# Altium schematic symbol library WCAP-AI3H.SchLib: 37 symbols
Pins are listed as number, name and electrical type; pins without a type are passive.

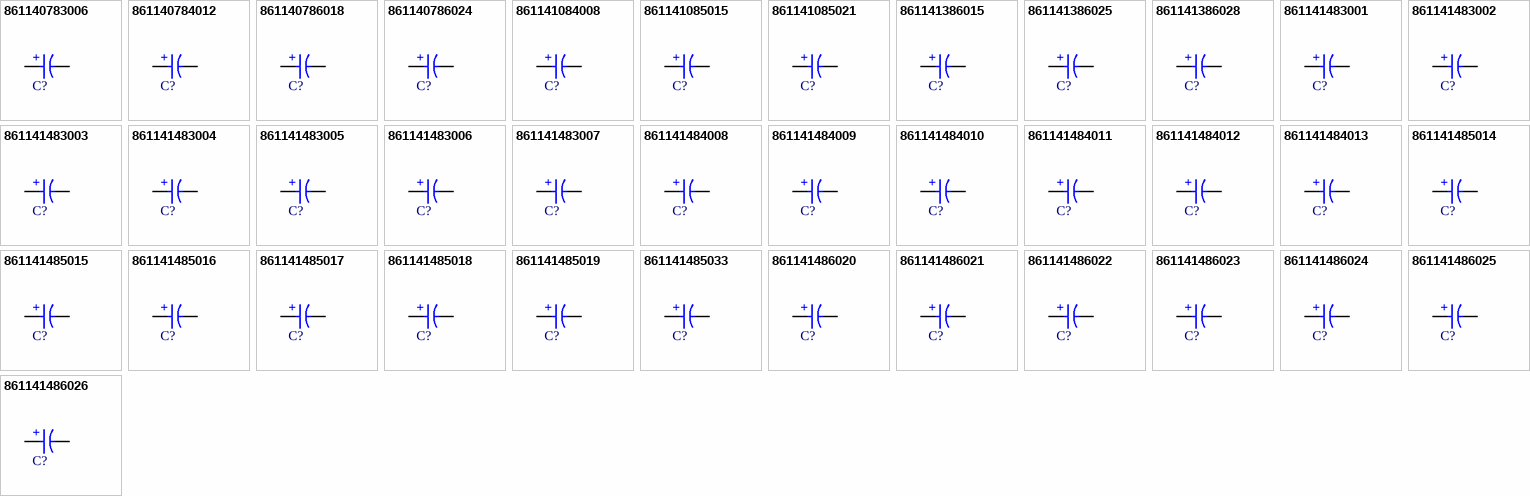
[diagram p0: symbols 861140783006 to 861141486026]

## 861140783006
designator C?, comment 2200µF  (value not drawn)
WCAP-AI3H Aluminum Electrolytic Capacitor, Snap-In, D22 x H35mm, 2200µF, 63V; Manufacturer Part Number: 861140783006; Manufacturer: Wurth Elektronik; Capacitance Tolerance: +/-20%; Dissipation Factor: 20%; Endurance: 3000h; Leakage Current: 1116.87µA; Ripple Current: 1820mA; Technical Reference: ANDN350222M063DSIC3C000; Category: Aluminum Electrolytic Capacitors; Match Code: WCAP-AI3H; ComponentLink1Description: Website Link; ComponentLink1URL: https://www.we-online.com/redexpert/article/861140783006?ad; ComponentLink2Description: Datasheet Link; ComponentLink2URL: https://www.we-online.com/redexpert/spec/861140783006?ad; Mount: Through Hole; Operating Temperature Max: 105°C; Operating Temperature Min: -40°C; Packaging: Tray; Height: 35mm; Diameter: 22mm; Capacitance: 2200µF; Rated Voltage (DC): 63V
footprint WCAP-AI3H_D22H35
simulation model 861140783006_2.2mF
pins: 1 P, 2 N
text: +

## 861140784012
designator C?, comment 3300µF  (value not drawn)
WCAP-AI3H Aluminum Electrolytic Capacitor, Snap-In, D25 x H35mm, 3300µF, 63V; Manufacturer Part Number: 861140784012; Manufacturer: Wurth Elektronik; Capacitance Tolerance: +/-20%; Dissipation Factor: 20%; Endurance: 3000h; Leakage Current: 1367.88µA; Ripple Current: 2270mA; Technical Reference: ANDO350332M063DSIC3C000; Category: Aluminum Electrolytic Capacitors; Match Code: WCAP-AI3H; ComponentLink1Description: Website Link; ComponentLink1URL: https://www.we-online.com/redexpert/article/861140784012?ad; ComponentLink2Description: Datasheet Link; ComponentLink2URL: https://www.we-online.com/redexpert/spec/861140784012?ad; Mount: Through Hole; Operating Temperature Max: 105°C; Operating Temperature Min: -40°C; Packaging: Tray; Height: 35mm; Diameter: 25mm; Capacitance: 3300µF; Rated Voltage (DC): 63V
footprint WCAP-AI3H_D25H35
simulation model 861140784012_3.3mF
pins: 1 P, 2 N
text: +

## 861140786018
designator C?, comment 4700µF  (value not drawn)
WCAP-AI3H Aluminum Electrolytic Capacitor, Snap-In, D35 x H30mm, 4700µF, 63V; Manufacturer Part Number: 861140786018; Manufacturer: Wurth Elektronik; Capacitance Tolerance: +/-20%; Dissipation Factor: 30%; Endurance: 3000h; Leakage Current: 1632.45µA; Ripple Current: 2830mA; Technical Reference: ANDQ300472M063DSIC2C000; Category: Aluminum Electrolytic Capacitors; Match Code: WCAP-AI3H; ComponentLink1Description: Website Link; ComponentLink1URL: https://www.we-online.com/redexpert/article/861140786018?ad; ComponentLink2Description: Datasheet Link; ComponentLink2URL: https://www.we-online.com/redexpert/spec/861140786018?ad; Mount: Through Hole; Operating Temperature Max: 105°C; Operating Temperature Min: -40°C; Packaging: Tray; Height: 30mm; Diameter: 35mm; Capacitance: 4700µF; Rated Voltage (DC): 63V
footprint WCAP-AI3H_D35H30
simulation model 861140786018_4.7mF
pins: 1 P, 2 N
text: +

## 861140786024
designator C?, comment 10000µF  (value not drawn)
WCAP-AI3H Aluminum Electrolytic Capacitor, Snap-In, D35 x H52mm, 10000µF, 63V; Manufacturer Part Number: 861140786024; Manufacturer: Wurth Elektronik; Capacitance Tolerance: +/-20%; Dissipation Factor: 30%; Endurance: 3000h; Leakage Current: 2381.18µA; Ripple Current: 4690mA; Technical Reference: ANDQ520103M063DSIC2C000; Category: Aluminum Electrolytic Capacitors; Match Code: WCAP-AI3H; ComponentLink1Description: Website Link; ComponentLink1URL: https://www.we-online.com/redexpert/article/861140786024?ad; ComponentLink2Description: Datasheet Link; ComponentLink2URL: https://www.we-online.com/redexpert/spec/861140786024?ad; Mount: Through Hole; Operating Temperature Max: 105°C; Operating Temperature Min: -40°C; Packaging: Tray; Height: 52mm; Diameter: 35mm; Capacitance: 10000µF; Rated Voltage (DC): 63V
footprint WCAP-AI3H_D35H52
simulation model 861140786024_10mF
pins: 1 P, 2 N
text: +

## 861141084008
designator C?, comment 470µF  (value not drawn)
WCAP-AI3H Aluminum Electrolytic Capacitor, Snap-In, D25 x H30mm, 470µF, 200V; Manufacturer Part Number: 861141084008; Manufacturer: Wurth Elektronik; Capacitance Tolerance: +/-20%; Dissipation Factor: 15%; Endurance: 3000h; Leakage Current: 919.78µA; Ripple Current: 1500mA; Technical Reference: ANDO300471M200DSIC3C004; Category: Aluminum Electrolytic Capacitors; Match Code: WCAP-AI3H; ComponentLink1Description: Website Link; ComponentLink1URL: https://www.we-online.com/redexpert/article/861141084008?ad; ComponentLink2Description: Datasheet Link; ComponentLink2URL: https://www.we-online.com/redexpert/spec/861141084008?ad; Mount: Through Hole; Operating Temperature Max: 105°C; Operating Temperature Min: -25°C; Packaging: Tray; Height: 30mm; Diameter: 25mm; Capacitance: 470µF; Rated Voltage (DC): 200V
footprint WCAP-AI3H_D25H30
simulation model 861141084008_0.47mF
pins: 1 P, 2 N
text: +

## 861141085015
designator C?, comment 680µF  (value not drawn)
WCAP-AI3H Aluminum Electrolytic Capacitor, Snap-In, D30 x H30mm, 680µF, 200V; Manufacturer Part Number: 861141085015; Manufacturer: Wurth Elektronik; Capacitance Tolerance: +/-20%; Dissipation Factor: 15%; Endurance: 3000h; Leakage Current: 1106.35µA; Ripple Current: 1780mA; Technical Reference: ANJP300681M200DSIC2C000; Category: Aluminum Electrolytic Capacitors; Match Code: WCAP-AI3H; ComponentLink1Description: Website Link; ComponentLink1URL: https://www.we-online.com/redexpert/article/861141085015?ad; ComponentLink2Description: Datasheet Link; ComponentLink2URL: https://www.we-online.com/redexpert/spec/861141085015?ad; Mount: Through Hole; Operating Temperature Max: 105°C; Operating Temperature Min: -25°C; Packaging: Tray; Height: 30mm; Diameter: 30mm; Capacitance: 680µF; Rated Voltage (DC): 200V
footprint WCAP-AI3H_D30H30
simulation model 861141085015_0.68mF
pins: 1 P, 2 N
text: +

## 861141085021
designator C?, comment 1000µF  (value not drawn)
WCAP-AI3H Aluminum Electrolytic Capacitor, Snap-In, D30 x H35mm, 1000µF, 200V; Manufacturer Part Number: 861141085021; Manufacturer: Wurth Elektronik; Capacitance Tolerance: +/-20%; Dissipation Factor: 15%; Endurance: 3000h; Leakage Current: 1341.64µA; Ripple Current: 2300mA; Technical Reference: ANJP350102M200DSIC2C000; Category: Aluminum Electrolytic Capacitors; Match Code: WCAP-AI3H; ComponentLink1Description: Website Link; ComponentLink1URL: https://www.we-online.com/redexpert/article/861141085021?ad; ComponentLink2Description: Datasheet Link; ComponentLink2URL: https://www.we-online.com/redexpert/spec/861141085021?ad; Mount: Through Hole; Operating Temperature Max: 105°C; Operating Temperature Min: -25°C; Packaging: Tray; Height: 35mm; Diameter: 30mm; Capacitance: 1000µF; Rated Voltage (DC): 200V
footprint WCAP-AI3H_D30H35
simulation model 861141085021_1mF
pins: 1 P, 2 N
text: +

## 861141386015
designator C?, comment 220µF  (value not drawn)
WCAP-AI3H Aluminum Electrolytic Capacitor, Snap-In, D35 x H25mm, 220µF, 400V; Manufacturer Part Number: 861141386015; Manufacturer: Wurth Elektronik; Capacitance Tolerance: +/-20%; Dissipation Factor: 20%; Endurance: 3000h; Leakage Current: 889.94µA; Ripple Current: 1100mA; Technical Reference: ANJQ250221M400DSIC2C000; Category: Aluminum Electrolytic Capacitors; Match Code: WCAP-AI3H; ComponentLink1Description: Website Link; ComponentLink1URL: https://www.we-online.com/redexpert/article/861141386015?ad; ComponentLink2Description: Datasheet Link; ComponentLink2URL: https://www.we-online.com/redexpert/spec/861141386015?ad; Mount: Through Hole; Operating Temperature Max: 105°C; Operating Temperature Min: -25°C; Packaging: Tray; Height: 25mm; Diameter: 35mm; Capacitance: 220µF; Rated Voltage (DC): 400V
footprint WCAP-AI3H_D35H25
simulation model 861141386015_0.22mF
pins: 1 P, 2 N
text: +

## 861141386025
designator C?, comment 470µF  (value not drawn)
WCAP-AI3H Aluminum Electrolytic Capacitor, Snap-In, D35 x H40mm, 470µF, 400V; Manufacturer Part Number: 861141386025; Manufacturer: Wurth Elektronik; Capacitance Tolerance: +/-20%; Dissipation Factor: 20%; Endurance: 3000h; Leakage Current: 1300.77µA; Ripple Current: 1900mA; Technical Reference: ANJQ400471M400DSIC2C000; Category: Aluminum Electrolytic Capacitors; Match Code: WCAP-AI3H; ComponentLink1Description: Website Link; ComponentLink1URL: https://www.we-online.com/redexpert/article/861141386025?ad; ComponentLink2Description: Datasheet Link; ComponentLink2URL: https://www.we-online.com/redexpert/spec/861141386025?ad; Mount: Through Hole; Operating Temperature Max: 105°C; Operating Temperature Min: -25°C; Packaging: Tray; Height: 40mm; Diameter: 35mm; Capacitance: 470µF; Rated Voltage (DC): 400V
footprint WCAP-AI3H_D35H40
simulation model 861141386025_0.47mF
pins: 1 P, 2 N
text: +

## 861141386028
designator C?, comment 1000µF  (value not drawn)
WCAP-AI3H Aluminum Electrolytic Capacitor, Snap-In, D35 x H65mm, 1000µF, 400V; Manufacturer Part Number: 861141386028; Manufacturer: Wurth Elektronik; Capacitance Tolerance: +/-20%; Dissipation Factor: 20%; Endurance: 3000h; Leakage Current: 1897.37µA; Ripple Current: 2650mA; Technical Reference: ANJQ650102M400DSIC2C000; Category: Aluminum Electrolytic Capacitors; Match Code: WCAP-AI3H; ComponentLink1Description: Website Link; ComponentLink1URL: https://www.we-online.com/redexpert/article/861141386028?ad; ComponentLink2Description: Datasheet Link; ComponentLink2URL: https://www.we-online.com/redexpert/spec/861141386028?ad; Mount: Through Hole; Operating Temperature Max: 105°C; Operating Temperature Min: -25°C; Packaging: Tray; Height: 65mm; Diameter: 35mm; Capacitance: 1000µF; Rated Voltage (DC): 400V
footprint WCAP-AI3H_D35H65
simulation model 861141386028_1mF
pins: 1 P, 2 N
text: +

## 861141483001
designator C?, comment 68µF  (value not drawn)
WCAP-AI3H Aluminum Electrolytic Capacitor, Snap-In, D22 x H25mm, 68µF, 450V; Manufacturer Part Number: 861141483001; Manufacturer: Wurth Elektronik; Capacitance Tolerance: +/-20%; Dissipation Factor: 20%; Endurance: 3000h; Leakage Current: 524.79µA; Ripple Current: 520mA; Technical Reference: ANJN250680M450DSIC3C000; Category: Aluminum Electrolytic Capacitors; Match Code: WCAP-AI3H; ComponentLink1Description: Website Link; ComponentLink1URL: https://www.we-online.com/redexpert/article/861141483001?ad; ComponentLink2Description: Datasheet Link; ComponentLink2URL: https://www.we-online.com/redexpert/spec/861141483001?ad; Mount: Through Hole; Operating Temperature Max: 105°C; Operating Temperature Min: -25°C; Packaging: Tray; Height: 25mm; Diameter: 22mm; Capacitance: 68µF; Rated Voltage (DC): 450V
footprint WCAP-AI3H_D22H25
simulation model 861141483001_68uF
pins: 1 P, 2 N
text: +

## 861141483002
designator C?, comment 82µF  (value not drawn)
WCAP-AI3H Aluminum Electrolytic Capacitor, Snap-In, D22 x H30mm, 82µF, 450V; Manufacturer Part Number: 861141483002; Manufacturer: Wurth Elektronik; Capacitance Tolerance: +/-20%; Dissipation Factor: 20%; Endurance: 3000h; Leakage Current: 576.28µA; Ripple Current: 640mA; Technical Reference: ANJN300820M450DSIC3C000; Category: Aluminum Electrolytic Capacitors; Match Code: WCAP-AI3H; ComponentLink1Description: Website Link; ComponentLink1URL: https://www.we-online.com/redexpert/article/861141483002?ad; ComponentLink2Description: Datasheet Link; ComponentLink2URL: https://www.we-online.com/redexpert/spec/861141483002?ad; Mount: Through Hole; Operating Temperature Max: 105°C; Operating Temperature Min: -25°C; Packaging: Tray; Height: 30mm; Diameter: 22mm; Capacitance: 82µF; Rated Voltage (DC): 450V
footprint WCAP-AI3H_D22H30
simulation model 861141483002_82uF
pins: 1 P, 2 N
text: +

## 861141483003
designator C?, comment 100µF  (value not drawn)
WCAP-AI3H Aluminum Electrolytic Capacitor, Snap-In, D22 x H35mm, 100µF, 450V; Manufacturer Part Number: 861141483003; Manufacturer: Wurth Elektronik; Capacitance Tolerance: +/-20%; Dissipation Factor: 20%; Endurance: 3000h; Leakage Current: 636.4µA; Ripple Current: 690mA; Technical Reference: ANJN350101M450DSIC3C000; Category: Aluminum Electrolytic Capacitors; Match Code: WCAP-AI3H; ComponentLink1Description: Website Link; ComponentLink1URL: https://www.we-online.com/redexpert/article/861141483003?ad; ComponentLink2Description: Datasheet Link; ComponentLink2URL: https://www.we-online.com/redexpert/spec/861141483003?ad; Mount: Through Hole; Operating Temperature Max: 105°C; Operating Temperature Min: -25°C; Packaging: Tray; Height: 35mm; Diameter: 22mm; Capacitance: 100µF; Rated Voltage (DC): 450V
footprint WCAP-AI3H_D22H35
simulation model 861141483003_0.1mF
pins: 1 P, 2 N
text: +

## 861141483004
designator C?, comment 120µF  (value not drawn)
WCAP-AI3H Aluminum Electrolytic Capacitor, Snap-In, D22 x H40mm, 120µF, 450V; Manufacturer Part Number: 861141483004; Manufacturer: Wurth Elektronik; Capacitance Tolerance: +/-20%; Dissipation Factor: 20%; Endurance: 3000h; Leakage Current: 697.14µA; Ripple Current: 800mA; Technical Reference: ANJN400121M450DSIC3C000; Category: Aluminum Electrolytic Capacitors; Match Code: WCAP-AI3H; ComponentLink1Description: Website Link; ComponentLink1URL: https://www.we-online.com/redexpert/article/861141483004?ad; ComponentLink2Description: Datasheet Link; ComponentLink2URL: https://www.we-online.com/redexpert/spec/861141483004?ad; Mount: Through Hole; Operating Temperature Max: 105°C; Operating Temperature Min: -25°C; Packaging: Tray; Height: 40mm; Diameter: 22mm; Capacitance: 120µF; Rated Voltage (DC): 450V
footprint WCAP-AI3H_D22H40
simulation model 861141483004_0.12mF
pins: 1 P, 2 N
text: +

## 861141483005
designator C?, comment 150µF  (value not drawn)
WCAP-AI3H Aluminum Electrolytic Capacitor, Snap-In, D22 x H45mm, 150µF, 450V; Manufacturer Part Number: 861141483005; Manufacturer: Wurth Elektronik; Capacitance Tolerance: +/-20%; Dissipation Factor: 20%; Endurance: 3000h; Leakage Current: 779.42µA; Ripple Current: 880mA; Technical Reference: ANJN450151M450DSIC3C000; Category: Aluminum Electrolytic Capacitors; Match Code: WCAP-AI3H; ComponentLink1Description: Website Link; ComponentLink1URL: https://www.we-online.com/redexpert/article/861141483005?ad; ComponentLink2Description: Datasheet Link; ComponentLink2URL: https://www.we-online.com/redexpert/spec/861141483005?ad; Mount: Through Hole; Operating Temperature Max: 105°C; Operating Temperature Min: -25°C; Packaging: Tray; Height: 45mm; Diameter: 22mm; Capacitance: 150µF; Rated Voltage (DC): 450V
footprint WCAP-AI3H_D22H45
simulation model 861141483005_0.15mF
pins: 1 P, 2 N
text: +

## 861141483006
designator C?, comment 180µF  (value not drawn)
WCAP-AI3H Aluminum Electrolytic Capacitor, Snap-In, D22 x H50mm, 180µF, 450V; Manufacturer Part Number: 861141483006; Manufacturer: Wurth Elektronik; Capacitance Tolerance: +/-20%; Dissipation Factor: 20%; Endurance: 3000h; Leakage Current: 853.81µA; Ripple Current: 1000mA; Technical Reference: ANJN500181M450DSIC3C000; Category: Aluminum Electrolytic Capacitors; Match Code: WCAP-AI3H; ComponentLink1Description: Website Link; ComponentLink1URL: https://www.we-online.com/redexpert/article/861141483006?ad; ComponentLink2Description: Datasheet Link; ComponentLink2URL: https://www.we-online.com/redexpert/spec/861141483006?ad; Mount: Through Hole; Operating Temperature Max: 105°C; Operating Temperature Min: -25°C; Packaging: Tray; Height: 50mm; Diameter: 22mm; Capacitance: 180µF; Rated Voltage (DC): 450V
footprint WCAP-AI3H_D22H50
simulation model 861141483006_0.18mF
pins: 1 P, 2 N
text: +

## 861141483007
designator C?, comment 220µF  (value not drawn)
WCAP-AI3H Aluminum Electrolytic Capacitor, Snap-In, D22 x H50mm, 220µF, 450V; Manufacturer Part Number: 861141483007; Manufacturer: Wurth Elektronik; Capacitance Tolerance: +/-20%; Dissipation Factor: 20%; Endurance: 3000h; Leakage Current: 943.93µA; Ripple Current: 1000mA; Technical Reference: ANJN500221M450DSIC3C000; Category: Aluminum Electrolytic Capacitors; Match Code: WCAP-AI3H; ComponentLink1Description: Website Link; ComponentLink1URL: https://www.we-online.com/redexpert/article/861141483007?ad; ComponentLink2Description: Datasheet Link; ComponentLink2URL: https://www.we-online.com/redexpert/spec/861141483007?ad; Mount: Through Hole; Operating Temperature Max: 105°C; Operating Temperature Min: -25°C; Packaging: Tray; Height: 50mm; Diameter: 22mm; Capacitance: 220µF; Rated Voltage (DC): 450V
footprint WCAP-AI3H_D22H50
simulation model 861141483007_0.22mF
pins: 1 P, 2 N
text: +

## 861141484008
designator C?, comment 82µF  (value not drawn)
WCAP-AI3H Aluminum Electrolytic Capacitor, Snap-In, D25 x H25mm, 82µF, 450V; Manufacturer Part Number: 861141484008; Manufacturer: Wurth Elektronik; Capacitance Tolerance: +/-20%; Dissipation Factor: 20%; Endurance: 3000h; Leakage Current: 576.28µA; Ripple Current: 640mA; Technical Reference: ANJO250820M450DSIC3C000; Category: Aluminum Electrolytic Capacitors; Match Code: WCAP-AI3H; ComponentLink1Description: Website Link; ComponentLink1URL: https://www.we-online.com/redexpert/article/861141484008?ad; ComponentLink2Description: Datasheet Link; ComponentLink2URL: https://www.we-online.com/redexpert/spec/861141484008?ad; Mount: Through Hole; Operating Temperature Max: 105°C; Operating Temperature Min: -25°C; Packaging: Tray; Height: 25mm; Diameter: 25mm; Capacitance: 82µF; Rated Voltage (DC): 450V
footprint WCAP-AI3H_D25H25
simulation model 861141484008_82uF
pins: 1 P, 2 N
text: +

## 861141484009
designator C?, comment 100µF  (value not drawn)
WCAP-AI3H Aluminum Electrolytic Capacitor, Snap-In, D25 x H30mm, 100µF, 450V; Manufacturer Part Number: 861141484009; Manufacturer: Wurth Elektronik; Capacitance Tolerance: +/-20%; Dissipation Factor: 20%; Endurance: 3000h; Leakage Current: 636.4µA; Ripple Current: 690mA; Technical Reference: ANJO300101M450DSIC3C000; Category: Aluminum Electrolytic Capacitors; Match Code: WCAP-AI3H; ComponentLink1Description: Website Link; ComponentLink1URL: https://www.we-online.com/redexpert/article/861141484009?ad; ComponentLink2Description: Datasheet Link; ComponentLink2URL: https://www.we-online.com/redexpert/spec/861141484009?ad; Mount: Through Hole; Operating Temperature Max: 105°C; Operating Temperature Min: -25°C; Packaging: Tray; Height: 30mm; Diameter: 25mm; Capacitance: 100µF; Rated Voltage (DC): 450V
footprint WCAP-AI3H_D25H30
simulation model 861141484009_0.1mF
pins: 1 P, 2 N
text: +

## 861141484010
designator C?, comment 120µF  (value not drawn)
WCAP-AI3H Aluminum Electrolytic Capacitor, Snap-In, D25 x H30mm, 120µF, 450V; Manufacturer Part Number: 861141484010; Manufacturer: Wurth Elektronik; Capacitance Tolerance: +/-20%; Dissipation Factor: 20%; Endurance: 3000h; Leakage Current: 697.14µA; Ripple Current: 800mA; Technical Reference: ANJO300121M450DSIC3C000; Category: Aluminum Electrolytic Capacitors; Match Code: WCAP-AI3H; ComponentLink1Description: Website Link; ComponentLink1URL: https://www.we-online.com/redexpert/article/861141484010?ad; ComponentLink2Description: Datasheet Link; ComponentLink2URL: https://www.we-online.com/redexpert/spec/861141484010?ad; Mount: Through Hole; Operating Temperature Max: 105°C; Operating Temperature Min: -25°C; Packaging: Tray; Height: 30mm; Diameter: 25mm; Capacitance: 120µF; Rated Voltage (DC): 450V
footprint WCAP-AI3H_D25H30
simulation model 861141484010_0.12mF
pins: 1 P, 2 N
text: +

## 861141484011
designator C?, comment 150µF  (value not drawn)
WCAP-AI3H Aluminum Electrolytic Capacitor, Snap-In, D25 x H35mm, 150µF, 450V; Manufacturer Part Number: 861141484011; Manufacturer: Wurth Elektronik; Capacitance Tolerance: +/-20%; Dissipation Factor: 20%; Endurance: 3000h; Leakage Current: 779.42µA; Ripple Current: 880mA; Technical Reference: ANJO350151M450DSIC3C000; Category: Aluminum Electrolytic Capacitors; Match Code: WCAP-AI3H; ComponentLink1Description: Website Link; ComponentLink1URL: https://www.we-online.com/redexpert/article/861141484011?ad; ComponentLink2Description: Datasheet Link; ComponentLink2URL: https://www.we-online.com/redexpert/spec/861141484011?ad; Mount: Through Hole; Operating Temperature Max: 105°C; Operating Temperature Min: -25°C; Packaging: Tray; Height: 35mm; Diameter: 25mm; Capacitance: 150µF; Rated Voltage (DC): 450V
footprint WCAP-AI3H_D25H35
simulation model 861141484011_0.15mF
pins: 1 P, 2 N
text: +

## 861141484012
designator C?, comment 180µF  (value not drawn)
WCAP-AI3H Aluminum Electrolytic Capacitor, Snap-In, D25 x H40mm, 180µF, 450V; Manufacturer Part Number: 861141484012; Manufacturer: Wurth Elektronik; Capacitance Tolerance: +/-20%; Dissipation Factor: 20%; Endurance: 3000h; Leakage Current: 853.81µA; Ripple Current: 1000mA; Technical Reference: ANJO400181M450DSIC3C000; Category: Aluminum Electrolytic Capacitors; Match Code: WCAP-AI3H; ComponentLink1Description: Website Link; ComponentLink1URL: https://www.we-online.com/redexpert/article/861141484012?ad; ComponentLink2Description: Datasheet Link; ComponentLink2URL: https://www.we-online.com/redexpert/spec/861141484012?ad; Mount: Through Hole; Operating Temperature Max: 105°C; Operating Temperature Min: -25°C; Packaging: Tray; Height: 40mm; Diameter: 25mm; Capacitance: 180µF; Rated Voltage (DC): 450V
footprint WCAP-AI3H_D25H40
simulation model 861141484012_0.18mF
pins: 1 P, 2 N
text: +

## 861141484013
designator C?, comment 220µF  (value not drawn)
WCAP-AI3H Aluminum Electrolytic Capacitor, Snap-In, D25 x H45mm, 220µF, 450V; Manufacturer Part Number: 861141484013; Manufacturer: Wurth Elektronik; Capacitance Tolerance: +/-20%; Dissipation Factor: 20%; Endurance: 3000h; Leakage Current: 943.93µA; Ripple Current: 1120mA; Technical Reference: ANJO450221M450DSIC3C000; Category: Aluminum Electrolytic Capacitors; Match Code: WCAP-AI3H; ComponentLink1Description: Website Link; ComponentLink1URL: https://www.we-online.com/redexpert/article/861141484013?ad; ComponentLink2Description: Datasheet Link; ComponentLink2URL: https://www.we-online.com/redexpert/spec/861141484013?ad; Mount: Through Hole; Operating Temperature Max: 105°C; Operating Temperature Min: -25°C; Packaging: Tray; Height: 45mm; Diameter: 25mm; Capacitance: 220µF; Rated Voltage (DC): 450V
footprint WCAP-AI3H_D25H45
simulation model 861141484013_0.22mF
pins: 1 P, 2 N
text: +

## 861141485014
designator C?, comment 120µF  (value not drawn)
WCAP-AI3H Aluminum Electrolytic Capacitor, Snap-In, D30 x H25mm, 120µF, 450V; Manufacturer Part Number: 861141485014; Manufacturer: Wurth Elektronik; Capacitance Tolerance: +/-20%; Dissipation Factor: 20%; Endurance: 3000h; Leakage Current: 697.14µA; Ripple Current: 800mA; Technical Reference: ANJP250121M450DSIC2C000; Category: Aluminum Electrolytic Capacitors; Match Code: WCAP-AI3H; ComponentLink1Description: Website Link; ComponentLink1URL: https://www.we-online.com/redexpert/article/861141485014?ad; ComponentLink2Description: Datasheet Link; ComponentLink2URL: https://www.we-online.com/redexpert/spec/861141485014?ad; Mount: Through Hole; Operating Temperature Max: 105°C; Operating Temperature Min: -25°C; Packaging: Tray; Height: 25mm; Diameter: 30mm; Capacitance: 120µF; Rated Voltage (DC): 450V
footprint WCAP-AI3H_D30H25
simulation model 861141485014_0.12mF
pins: 1 P, 2 N
text: +

## 861141485015
designator C?, comment 150µF  (value not drawn)
WCAP-AI3H Aluminum Electrolytic Capacitor, Snap-In, D30 x H30mm, 150µF, 450V; Manufacturer Part Number: 861141485015; Manufacturer: Wurth Elektronik; Capacitance Tolerance: +/-20%; Dissipation Factor: 20%; Endurance: 3000h; Leakage Current: 779.42µA; Ripple Current: 880mA; Technical Reference: ANJP300151M450DSIC2C000; Category: Aluminum Electrolytic Capacitors; Match Code: WCAP-AI3H; ComponentLink1Description: Website Link; ComponentLink1URL: https://www.we-online.com/redexpert/article/861141485015?ad; ComponentLink2Description: Datasheet Link; ComponentLink2URL: https://www.we-online.com/redexpert/spec/861141485015?ad; Mount: Through Hole; Operating Temperature Max: 105°C; Operating Temperature Min: -25°C; Packaging: Tray; Height: 30mm; Diameter: 30mm; Capacitance: 150µF; Rated Voltage (DC): 450V
footprint WCAP-AI3H_D30H30
simulation model 861141485015_0.15mF
pins: 1 P, 2 N
text: +

## 861141485016
designator C?, comment 180µF  (value not drawn)
WCAP-AI3H Aluminum Electrolytic Capacitor, Snap-In, D30 x H30mm, 180µF, 450V; Manufacturer Part Number: 861141485016; Manufacturer: Wurth Elektronik; Capacitance Tolerance: +/-20%; Dissipation Factor: 20%; Endurance: 3000h; Leakage Current: 853.81µA; Ripple Current: 1000mA; Technical Reference: ANJP300181M450DSIC2C000; Category: Aluminum Electrolytic Capacitors; Match Code: WCAP-AI3H; ComponentLink1Description: Website Link; ComponentLink1URL: https://www.we-online.com/redexpert/article/861141485016?ad; ComponentLink2Description: Datasheet Link; ComponentLink2URL: https://www.we-online.com/redexpert/spec/861141485016?ad; Mount: Through Hole; Operating Temperature Max: 105°C; Operating Temperature Min: -25°C; Packaging: Tray; Height: 30mm; Diameter: 30mm; Capacitance: 180µF; Rated Voltage (DC): 450V
footprint WCAP-AI3H_D30H30
simulation model 861141485016_0.18mF
pins: 1 P, 2 N
text: +

## 861141485017
designator C?, comment 220µF  (value not drawn)
WCAP-AI3H Aluminum Electrolytic Capacitor, Snap-In, D30 x H35mm, 220µF, 450V; Manufacturer Part Number: 861141485017; Manufacturer: Wurth Elektronik; Capacitance Tolerance: +/-20%; Dissipation Factor: 20%; Endurance: 3000h; Leakage Current: 943.93µA; Ripple Current: 1120mA; Technical Reference: ANJP350221M450DSIC2C000; Category: Aluminum Electrolytic Capacitors; Match Code: WCAP-AI3H; ComponentLink1Description: Website Link; ComponentLink1URL: https://www.we-online.com/redexpert/article/861141485017?ad; ComponentLink2Description: Datasheet Link; ComponentLink2URL: https://www.we-online.com/redexpert/spec/861141485017?ad; Mount: Through Hole; Operating Temperature Max: 105°C; Operating Temperature Min: -25°C; Packaging: Tray; Height: 35mm; Diameter: 30mm; Capacitance: 220µF; Rated Voltage (DC): 450V
footprint WCAP-AI3H_D30H35
simulation model 861141485017_0.22mF
pins: 1 P, 2 N
text: +

## 861141485018
designator C?, comment 270µF  (value not drawn)
WCAP-AI3H Aluminum Electrolytic Capacitor, Snap-In, D30 x H40mm, 270µF, 450V; Manufacturer Part Number: 861141485018; Manufacturer: Wurth Elektronik; Capacitance Tolerance: +/-20%; Dissipation Factor: 20%; Endurance: 3000h; Leakage Current: 1045.71µA; Ripple Current: 1280mA; Technical Reference: ANJP400271M450DSIC2C000; Category: Aluminum Electrolytic Capacitors; Match Code: WCAP-AI3H; ComponentLink1Description: Website Link; ComponentLink1URL: https://www.we-online.com/redexpert/article/861141485018?ad; ComponentLink2Description: Datasheet Link; ComponentLink2URL: https://www.we-online.com/redexpert/spec/861141485018?ad; Mount: Through Hole; Operating Temperature Max: 105°C; Operating Temperature Min: -25°C; Packaging: Tray; Height: 40mm; Diameter: 30mm; Capacitance: 270µF; Rated Voltage (DC): 450V
footprint WCAP-AI3H_D30H40
simulation model 861141485018_0.27mF
pins: 1 P, 2 N
text: +

## 861141485019
designator C?, comment 330µF  (value not drawn)
WCAP-AI3H Aluminum Electrolytic Capacitor, Snap-In, D30 x H50mm, 330µF, 450V; Manufacturer Part Number: 861141485019; Manufacturer: Wurth Elektronik; Capacitance Tolerance: +/-20%; Dissipation Factor: 20%; Endurance: 3000h; Leakage Current: 1156.07µA; Ripple Current: 1450mA; Technical Reference: ANJP500331M450DSIC2C000; Category: Aluminum Electrolytic Capacitors; Match Code: WCAP-AI3H; ComponentLink1Description: Website Link; ComponentLink1URL: https://www.we-online.com/redexpert/article/861141485019?ad; ComponentLink2Description: Datasheet Link; ComponentLink2URL: https://www.we-online.com/redexpert/spec/861141485019?ad; Mount: Through Hole; Operating Temperature Max: 105°C; Operating Temperature Min: -25°C; Packaging: Tray; Height: 50mm; Diameter: 30mm; Capacitance: 330µF; Rated Voltage (DC): 450V
footprint WCAP-AI3H_D30H50
simulation model 861141485019_0.33mF
pins: 1 P, 2 N
text: +

## 861141485033
designator C?, comment 470µF  (value not drawn)
WCAP-AI3H Aluminum Electrolytic Capacitor, Snap-In, D30 x H40mm, 470µF, 450V; Manufacturer Part Number: 861141485033; Manufacturer: Wurth Elektronik; Capacitance Tolerance: +/-20%; Dissipation Factor: 20%; Endurance: 4000h; Leakage Current: 1380µA; Ripple Current: 1940mA; Technical Reference: ANDP400471M450DSIC2D0T2; Category: Aluminum Electrolytic Capacitors; Match Code: WCAP-AI3H; ComponentLink1Description: Website Link; ComponentLink1URL: https://www.we-online.com/redexpert/article/861141485033?ad; ComponentLink2Description: Datasheet Link; ComponentLink2URL: https://www.we-online.com/redexpert/spec/861141485033?ad; Mount: Through Hole; Operating Temperature Max: 105°C; Operating Temperature Min: -40°C; Packaging: Tray; Height: 40mm; Diameter: 30mm; Capacitance: 470µF; Rated Voltage (DC): 450V
footprint WCAP-AI3H_D30H40
simulation model 861141485033_470uF
pins: 1 P, 2 N
text: +

## 861141486020
designator C?, comment 220µF  (value not drawn)
WCAP-AI3H Aluminum Electrolytic Capacitor, Snap-In, D35 x H30mm, 220µF, 450V; Manufacturer Part Number: 861141486020; Manufacturer: Wurth Elektronik; Capacitance Tolerance: +/-20%; Dissipation Factor: 20%; Endurance: 3000h; Leakage Current: 943.93µA; Ripple Current: 1120mA; Technical Reference: ANJQ300221M450DSIC2C000; Category: Aluminum Electrolytic Capacitors; Match Code: WCAP-AI3H; ComponentLink1Description: Website Link; ComponentLink1URL: https://www.we-online.com/redexpert/article/861141486020?ad; ComponentLink2Description: Datasheet Link; ComponentLink2URL: https://www.we-online.com/redexpert/spec/861141486020?ad; Mount: Through Hole; Operating Temperature Max: 105°C; Operating Temperature Min: -25°C; Packaging: Tray; Height: 30mm; Diameter: 35mm; Capacitance: 220µF; Rated Voltage (DC): 450V
footprint WCAP-AI3H_D35H30
simulation model 861141486020_0.22mF
pins: 1 P, 2 N
text: +

## 861141486021
designator C?, comment 270µF  (value not drawn)
WCAP-AI3H Aluminum Electrolytic Capacitor, Snap-In, D35 x H35mm, 270µF, 450V; Manufacturer Part Number: 861141486021; Manufacturer: Wurth Elektronik; Capacitance Tolerance: +/-20%; Dissipation Factor: 20%; Endurance: 3000h; Leakage Current: 1045.71µA; Ripple Current: 1280mA; Technical Reference: ANJQ350271M450DSIC2C000; Category: Aluminum Electrolytic Capacitors; Match Code: WCAP-AI3H; ComponentLink1Description: Website Link; ComponentLink1URL: https://www.we-online.com/redexpert/article/861141486021?ad; ComponentLink2Description: Datasheet Link; ComponentLink2URL: https://www.we-online.com/redexpert/spec/861141486021?ad; Mount: Through Hole; Operating Temperature Max: 105°C; Operating Temperature Min: -25°C; Packaging: Tray; Height: 35mm; Diameter: 35mm; Capacitance: 270µF; Rated Voltage (DC): 450V
footprint WCAP-AI3H_D35H35
simulation model 861141486021_0.27mF
pins: 1 P, 2 N
text: +

## 861141486022
designator C?, comment 330µF  (value not drawn)
WCAP-AI3H Aluminum Electrolytic Capacitor, Snap-In, D35 x H42mm, 330µF, 450V; Manufacturer Part Number: 861141486022; Manufacturer: Wurth Elektronik; Capacitance Tolerance: +/-20%; Dissipation Factor: 20%; Endurance: 3000h; Leakage Current: 1156.07µA; Ripple Current: 1450mA; Technical Reference: ANJQ420331M450DSIC2C000; Category: Aluminum Electrolytic Capacitors; Match Code: WCAP-AI3H; ComponentLink1Description: Website Link; ComponentLink1URL: https://www.we-online.com/redexpert/article/861141486022?ad; ComponentLink2Description: Datasheet Link; ComponentLink2URL: https://www.we-online.com/redexpert/spec/861141486022?ad; Mount: Through Hole; Operating Temperature Max: 105°C; Operating Temperature Min: -25°C; Packaging: Tray; Height: 42mm; Diameter: 35mm; Capacitance: 330µF; Rated Voltage (DC): 450V
footprint WCAP-AI3H_D35H42
simulation model 861141486022_0.33mF
pins: 1 P, 2 N
text: +

## 861141486023
designator C?, comment 390µF  (value not drawn)
WCAP-AI3H Aluminum Electrolytic Capacitor, Snap-In, D35 x H40mm, 390µF, 450V; Manufacturer Part Number: 861141486023; Manufacturer: Wurth Elektronik; Capacitance Tolerance: +/-20%; Dissipation Factor: 20%; Endurance: 3000h; Leakage Current: 1256.78µA; Ripple Current: 1500mA; Technical Reference: ANJQ400391M450DSIC2C000; Category: Aluminum Electrolytic Capacitors; Match Code: WCAP-AI3H; ComponentLink1Description: Website Link; ComponentLink1URL: https://www.we-online.com/redexpert/article/861141486023?ad; ComponentLink2Description: Datasheet Link; ComponentLink2URL: https://www.we-online.com/redexpert/spec/861141486023?ad; Mount: Through Hole; Operating Temperature Max: 105°C; Operating Temperature Min: -25°C; Packaging: Tray; Height: 40mm; Diameter: 35mm; Capacitance: 390µF; Rated Voltage (DC): 450V
footprint WCAP-AI3H_D35H40
simulation model 861141486023_0.39mF
pins: 1 P, 2 N
text: +

## 861141486024
designator C?, comment 470µF  (value not drawn)
WCAP-AI3H Aluminum Electrolytic Capacitor, Snap-In, D35 x H50mm, 470µF, 450V; Manufacturer Part Number: 861141486024; Manufacturer: Wurth Elektronik; Capacitance Tolerance: +/-20%; Dissipation Factor: 20%; Endurance: 3000h; Leakage Current: 1379.67µA; Ripple Current: 1850mA; Technical Reference: ANJQ500471M450DSIC2C000; Category: Aluminum Electrolytic Capacitors; Match Code: WCAP-AI3H; ComponentLink1Description: Website Link; ComponentLink1URL: https://www.we-online.com/redexpert/article/861141486024?ad; ComponentLink2Description: Datasheet Link; ComponentLink2URL: https://www.we-online.com/redexpert/spec/861141486024?ad; Mount: Through Hole; Operating Temperature Max: 105°C; Operating Temperature Min: -25°C; Packaging: Tray; Height: 50mm; Diameter: 35mm; Capacitance: 470µF; Rated Voltage (DC): 450V
footprint WCAP-AI3H_D35H50
simulation model 861141486024_0.47mF
pins: 1 P, 2 N
text: +

## 861141486025
designator C?, comment 560µF  (value not drawn)
WCAP-AI3H Aluminum Electrolytic Capacitor, Snap-In, D35 x H55mm, 560µF, 450V; Manufacturer Part Number: 861141486025; Manufacturer: Wurth Elektronik; Capacitance Tolerance: +/-20%; Dissipation Factor: 20%; Endurance: 3000h; Leakage Current: 1505.99µA; Ripple Current: 2150mA; Technical Reference: ANJQ550561M450DSIC2C000; Category: Aluminum Electrolytic Capacitors; Match Code: WCAP-AI3H; ComponentLink1Description: Website Link; ComponentLink1URL: https://www.we-online.com/redexpert/article/861141486025?ad; ComponentLink2Description: Datasheet Link; ComponentLink2URL: https://www.we-online.com/redexpert/spec/861141486025?ad; Mount: Through Hole; Operating Temperature Max: 105°C; Operating Temperature Min: -25°C; Packaging: Tray; Height: 55mm; Diameter: 35mm; Capacitance: 560µF; Rated Voltage (DC): 450V
footprint WCAP-AI3H_D35H55
simulation model 861141486025_0.56mF
pins: 1 P, 2 N
text: +

## 861141486026
designator C?, comment 680µF  (value not drawn)
WCAP-AI3H Aluminum Electrolytic Capacitor, Snap-In, D35 x H55mm, 680µF, 450V; Manufacturer Part Number: 861141486026; Manufacturer: Wurth Elektronik; Capacitance Tolerance: +/-20%; Dissipation Factor: 20%; Endurance: 3000h; Leakage Current: 1659.52µA; Ripple Current: 2200mA; Technical Reference: ANJQ550681M450DSIC2C000; Category: Aluminum Electrolytic Capacitors; Match Code: WCAP-AI3H; ComponentLink1Description: Website Link; ComponentLink1URL: https://www.we-online.com/redexpert/article/861141486026?ad; ComponentLink2Description: Datasheet Link; ComponentLink2URL: https://www.we-online.com/redexpert/spec/861141486026?ad; Mount: Through Hole; Operating Temperature Max: 105°C; Operating Temperature Min: -25°C; Packaging: Tray; Height: 55mm; Diameter: 35mm; Capacitance: 680µF; Rated Voltage (DC): 450V
footprint WCAP-AI3H_D35H55
simulation model 861141486026_0.68mF
pins: 1 P, 2 N
text: +